# Altium footprint library 电源接口.PcbLib: 4 footprints
Each footprint in its own frame and in the unit in brackets; x right, y up, seen from the top. Pads: shape width x height; smd on the part's side, far side on the other; paste and mask are expansions set on the pad; w line width, h text height; cw(c..) or ccw(c..) is an arc to the next point about the centre after c.
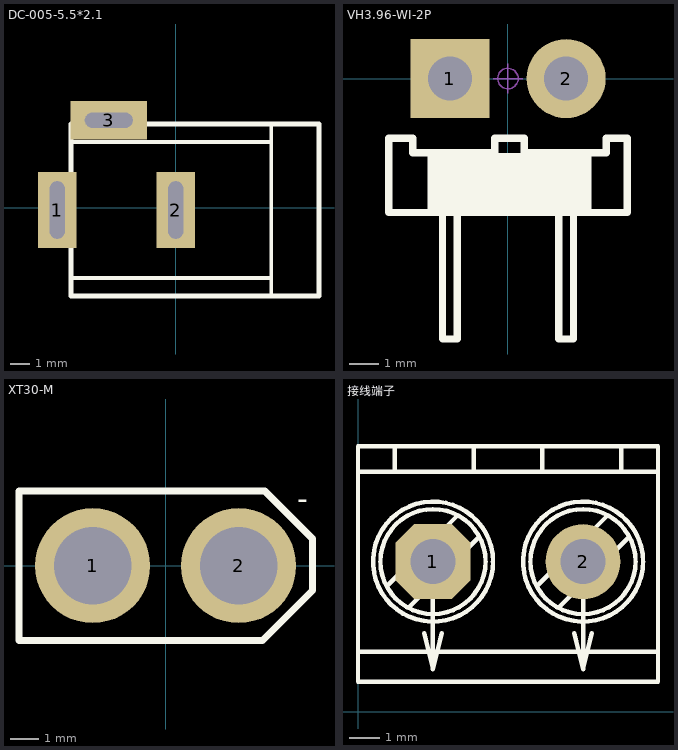
[diagram p0: the footprints below, top view; thin cyan lines are the x and y axes]

## DC-005-5.5*2.1 [mm]
pads (3):
  rect 2x4 hole 0.8 slot 3 at 90 deg: 1(-6.2,-0.127) 2(0,-0.127)
  rect 4x2 hole 0.8 slot 2.5 at 0 deg: 3(-3.5,4.573)
Top Overlay:
  lines w0.2: -5.484,-3.683 5,-3.683 ; -5.484,3.429 5,3.429 ; 5,-4.627 5,4.373
  lines w0.254: -5.484,-4.627 -5.484,4.373 7.5,4.373 7.5,-4.627 -5.484,-4.627
3D body "dc-005.STEP": height 11.2, standoff -3.8, extent -6.55,-4.627 7.5,4.673

## VH3.96-WI-2P [mm] "接插件，25V/5A"
pads (2):
  rect 2.7x2.7 hole 1.5: 1(-1.98,0)
  round 2.7 hole 1.5: 2(1.982,0)
Top Overlay:
  rectangle: -2.742,-4.572 2.846,-2.54
  lines w0.254: 1.627,-4.572 2.236,-4.572 2.236,-8.89 1.982,-8.89 1.728,-8.89 1.728,-4.572 ; 4.065,-4.572 4.065,-2.032 ; 4.065,-4.572 -2.234,-4.572 -2.234,-8.89 -1.98,-8.89 -1.726,-8.89 -1.726,-4.572 -2.336,-4.572 -4.063,-4.572 -4.063,-2.032 -3.25,-2.032 -3.25,-2.54 -0.456,-2.54 -0.456,-2.032 0.56,-2.032 0.56,-2.54 3.354,-2.54 3.354,-2.032 4.065,-2.032 ; 4.065,-4.572 4.065,-2.032
Mechanical 15:
  circle w0.05: c0,0 r0.35
  lines w0.05: -0.5,0 0.5,0 ; 0,-0.5 0,0.5
3D body "VH3.96_H右.STEP": height 8.76, standoff -3.55, extent -4.005,-12 0.045,0.6
3D body "VH3.96-左H.STEP": height 8.76, standoff -3.55, extent -0.043,-12 4.007,0.6

## XT30-M [mm]
height 24
pads (2):
  round 4 hole 2.7: 1(-2.54,0) 2(2.54,0)
Top Overlay:
  lines w0.254: 3.454,2.6 -5.1,2.6 -5.1,-2.6 3.369,-2.6 5.105,-0.864 5.105,0.94 3.511,2.535
  text "-" at 4.572,1.956 h0.76
Bottom Overlay:
  text "+" at -4.88,-2.775 h0.51
  text "-" at 5.08,1.956 h0.76
3D body "XT30U-M.STEP": height 10.66, standoff -3.04, extent -5.176,-2.8 5.024,2.8

## 接线端子 [mm] "J-DG128-2"
pads (2):
  oct 2.5x2.5 hole 1.5: 1(2.5,5)
  round 2.5 hole 1.5: 2(7.5,5)
Top Overlay:
  circle w0.15: c2.5,5 r1.75
  circle w0.15: c2.5,5 r2
  circle w0.15: c7.5,5 r1.75
  circle w0.15: c7.5,5 r2
  lines w0.15: 0,2 10,2 ; 0,8 10,8 ; 0.987,4.209 3.298,6.52 ; 1.219,8 1.219,8.839 ; 1.702,3.48 4.013,5.791 ; 2.21,2.611 2.5,1.406 ; 2.5,5 2.5,1.406 ; 2.79,2.611 2.5,1.406 ; 3.861,8 3.861,8.839 ; 5.987,4.209 8.298,6.52 ; 6.139,8 6.139,8.839 ; 6.702,3.48 9.013,5.791 ; 7.21,2.611 7.5,1.406 ; 7.5,5 7.5,1.406 ; 7.79,2.611 7.5,1.406 ; 8.781,8 8.781,8.839 ; 0,1 0,8.839 10,8.839 10,1 0,1
3D body "User Library-CN_BT_1X2.step": height 10, standoff -2.28, extent -0.491,1.15 10.009,8.85